# Altium schematic symbol library AC0402FR-0710KL.SchLib: 2 symbols
Pins are listed as number, name and electrical type; pins without a type are passive.

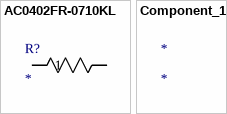
[diagram p0: symbols AC0402FR-0710KL to Component_1]

## AC0402FR-0710KL
designator R?
No Description Available; Mfr_Name: Yageo; Type: Chip Resistor - Surface Mount
footprint RES_AC0402FR_YAG
pins: 1, 2

## Component_1
designator *